# Altium footprint library PcbLib1.PcbLib: 22 footprints (part 2 of 2)
Each footprint in its own frame and in the unit in brackets; x right, y up, seen from the top. Pads: shape width x height; smd on the part's side, far side on the other; paste and mask are expansions set on the pad; w line width, h text height; cw(c..) or ccw(c..) is an arc to the next point about the centre after c.
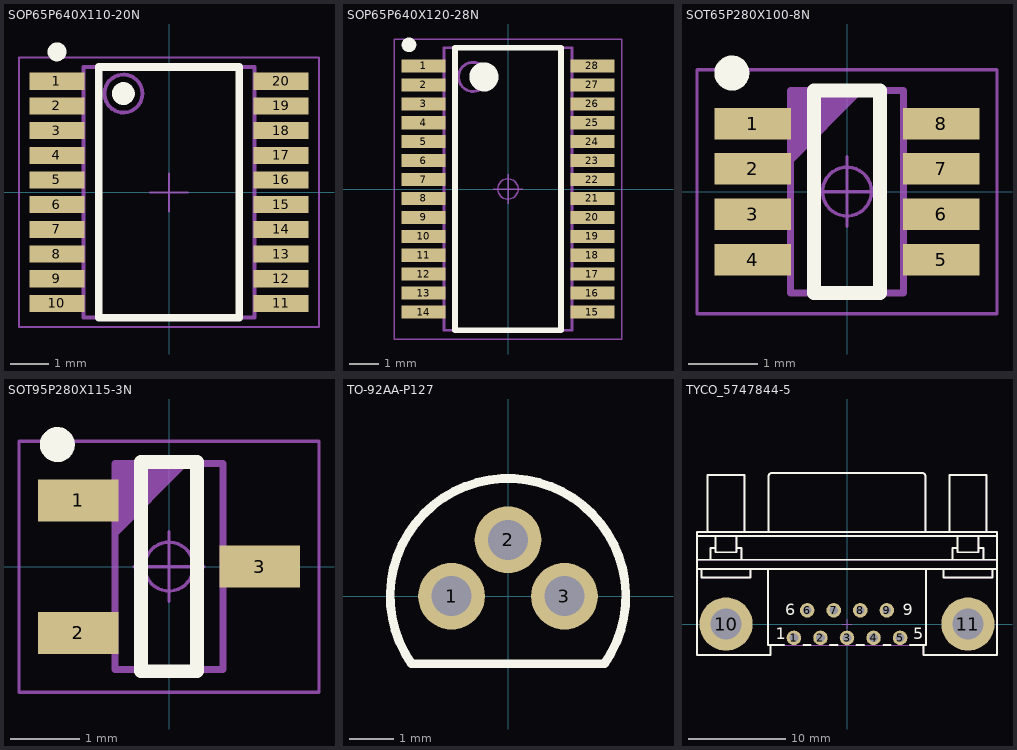
[diagram p1: the footprints below, top view; thin cyan lines are the x and y axes]

## SOP65P640X110-20N [mm] "SOP, 20-Leads, Body 6.6x4.5mm (max), Pitch 0.65mm, IPC Medium Density"
height 1.1
pads (20):
  rect 1.45x0.45 smd: 1(-2.95,2.925) 2(-2.95,2.275) 3(-2.95,1.625) 4(-2.95,0.975) 5(-2.95,0.325) 6(-2.95,-0.325) 7(-2.95,-0.975) 8(-2.95,-1.625) 9(-2.95,-2.275) 10(-2.95,-2.925) 11(2.95,-2.925) 12(2.95,-2.275) 13(2.95,-1.625) 14(2.95,-0.975) 15(2.95,-0.325) 16(2.95,0.325) 17(2.95,0.975) 18(2.95,1.625) 19(2.95,2.275) 20(2.95,2.925)
Top Overlay:
  circle w0.25: c-2.95,3.7 r0.125
  circle w0.3: c-1.2,2.6 r0.15
  lines w0.2: -1.85,-3.3 1.85,-3.3 1.85,3.3 -1.85,3.3 -1.85,-3.3
Mechanical 14:
  circle w0.1: c-1.2,2.6 r0.5
  lines w0.1: -2.25,-3.3 2.25,-3.3 2.25,3.3 -2.25,3.3 -2.25,-3.3
Mechanical 15:
  lines w0.05: -0.5,0 0.5,0 ; 0,-0.5 0,0.5 ; -3.95,-3.55 3.95,-3.55 3.95,3.55 -3.95,3.55 -3.95,-3.55
3D body "SOP65P640X110-20N.stp": height 1.19, standoff 0, extent -3.121,-3.3 3.121,3.3

## SOP65P640X120-28N [mm] "SOP, 0.65mm Pitch; 28 Pin, 4.40mm W X 9.70mm L X 1.20mm H body, IPC Medium Density"
height 1.2
pads (28):
  rect 1.5x0.45 smd: 1(-2.9,4.225) 2(-2.9,3.575) 3(-2.9,2.925) 4(-2.9,2.275) 5(-2.9,1.625) 6(-2.9,0.975) 7(-2.9,0.325) 8(-2.9,-0.325) 9(-2.9,-0.975) 10(-2.9,-1.625) 11(-2.9,-2.275) 12(-2.9,-2.925) 13(-2.9,-3.575) 14(-2.9,-4.225) 15(2.9,-4.225) 16(2.9,-3.575) 17(2.9,-2.925) 18(2.9,-2.275) 19(2.9,-1.625) 20(2.9,-0.975) 21(2.9,-0.325) 22(2.9,0.325) 23(2.9,0.975) 24(2.9,1.625) 25(2.9,2.275) 26(2.9,2.925) 27(2.9,3.575) 28(2.9,4.225)
Top Overlay:
  circle w0.5: c-0.825,3.85 r0.25
  circle w0.25: c-3.4,4.95 r0.125
  lines w0.2: -1.825,-4.85 1.825,-4.85 1.825,4.85 -1.825,4.85 -1.825,-4.85
Mechanical 14:
  circle w0.1: c-1.2,3.85 r0.5
  lines w0.1: -2.2,-4.85 2.2,-4.85 2.2,4.85 -2.2,4.85 -2.2,-4.85
Mechanical 15:
  circle w0.05: c0,0 r0.35
  lines w0.05: -0.5,0 0.5,0 ; 0,-0.5 0,0.5 ; -3.9,-5.15 3.9,-5.15 3.9,5.15 -3.9,5.15 -3.9,-5.15
3D body "SOP65P640X120-28N.stp": height 1.2, standoff 0, extent -3.121,-4.9 3.121,4.9

## SOT65P280X100-8N [mm] "SOT, 0.65mm pitch; 8 pin, 1.625mm W X 2.90mm L X 1.00mm H body, IPC Medium Density"
height 1
pads (8):
  rect 1.1x0.45 smd: 1(-1.35,0.975) 2(-1.35,0.325) 3(-1.35,-0.325) 4(-1.35,-0.975) 5(1.35,-0.975) 6(1.35,-0.325) 7(1.35,0.325) 8(1.35,0.975)
Top Overlay:
  circle w0.25: c-1.65,1.7 r0.125
  lines w0.2: -0.475,-1.45 -0.475,1.45 0.475,1.45 0.475,-1.45 -0.475,-1.45
Mechanical 14:
  lines w0.1: -0.812,0.45 0.188,1.45 ; -0.812,0.55 0.088,1.45 ; -0.812,0.65 -0.012,1.45 ; -0.812,0.75 -0.112,1.45 ; -0.812,0.85 -0.212,1.45 ; -0.812,0.95 -0.312,1.45 ; -0.812,1.05 -0.412,1.45 ; -0.812,1.15 -0.512,1.45 ; -0.812,1.25 -0.612,1.45 ; -0.812,1.35 -0.712,1.45 ; -0.812,-1.45 -0.812,1.45 0.812,1.45 0.812,-1.45 -0.812,-1.45
Mechanical 15:
  circle w0.05: c0,0 r0.35
  lines w0.05: -0.5,0 0.5,0 ; 0,-0.5 0,0.5 ; -2.15,-1.75 -2.15,1.75 2.15,1.75 2.15,-1.75 -2.15,-1.75
3D body "SOT65P280X100-8N.stp": height 1, standoff 0, extent -1.4,-1.5 1.4,1.5

## SOT95P280X115-3N [mm] "SOT23, 0.95mm, pitch;3 pin,1.55mm W X 2.95mm L X 1.15mm H body, IPC Medium Density"
height 1.15
pads (3):
  rect 1.15x0.6 smd: 1(-1.3,0.95) 2(-1.3,-0.95) 3(1.3,0)
Top Overlay:
  circle w0.25: c-1.6,1.75 r0.125
  lines w0.2: -0.4,-1.5 0.4,-1.5 0.4,1.5 -0.4,1.5 -0.4,-1.5
Mechanical 14:
  lines w0.1: -0.775,0.475 0.225,1.475 ; -0.775,0.575 0.125,1.475 ; -0.775,0.675 0.025,1.475 ; -0.775,0.775 -0.075,1.475 ; -0.775,0.875 -0.175,1.475 ; -0.775,0.975 -0.275,1.475 ; -0.775,1.075 -0.375,1.475 ; -0.775,1.175 -0.475,1.475 ; -0.775,1.275 -0.575,1.475 ; -0.775,1.375 -0.675,1.475 ; -0.775,-1.475 0.775,-1.475 0.775,1.475 -0.775,1.475 -0.775,-1.475
Mechanical 15:
  circle w0.05: c0,0 r0.35
  lines w0.05: -0.5,0 0.5,0 ; 0,-0.5 0,0.5 ; -2.15,-1.8 2.15,-1.8 2.15,1.8 -2.15,1.8 -2.15,-1.8
3D body "SOT95P280X115-3N.stp": height 1.15, standoff -0.01, extent -1.4,-1.5 1.599,1.5

## TO-92AA-P127 [mm] "TO-92 (TO-226),  Pitch 1.27mm, Flat Index, 3 In-Line, Axial Leads, Body Dia. 5.3mm, Leads Dia. 0.5mm (max)"
height 5.33
pads (3):
  round 1.5 hole 0.9: 1(-1.27,0) 2(0,1.27) 3(1.27,0)
Top Overlay:
  pour cut-out: 2.4,4.1
  lines w0.2: -2.171,-1.52 cw(c0,0) 2.171,-1.52 -2.171,-1.52
Mechanical 14:
  lines w0.1: -2.171,-1.52 cw(c0,0) 2.171,-1.52 -2.171,-1.52
3D body "TO-92AA-P127.stp": height 9.33, standoff -3.2, extent -2.579,-1.53 2.579,2.638

## TYCO_5747844-5 [mm] "Right Angle 9 Female Contacts D-SUB Connector With PCB Mount Retention , Grounding Straps, and Fixed UNC 4-40 Female Screwlocks"
height 12.92
pads (11):
  round 1.5 hole 0.9: 1(-5.48,-1.422) 2(-2.74,-1.422) 3(0,-1.422) 4(2.74,-1.422) 5(5.48,-1.422) 6(-4.11,1.422) 7(-1.37,1.422) 8(1.37,1.422) 9(4.11,1.422)
  round 5.5 hole 3.2 unplated: 10(-12.495,0)
  round 5.5 hole 3.2: 11(12.495,0)
Top Overlay:
  lines w0.2: -15.494,5.679 15.494,5.679 ; -15.494,6.645 15.494,6.645 ; -15.494,9.108 15.494,9.108 ; -15.011,5.679 -15.011,4.79 -9.982,4.79 -9.982,5.679 ; -14.402,9.525 -14.402,15.408 -10.592,15.408 -10.592,9.525 ; -14.084,6.645 -14.084,7.838 -13.576,7.838 ; -13.576,9.108 -13.576,7.422 -11.417,7.422 -11.417,9.108 ; -11.417,7.838 -10.909,7.838 -10.909,6.645 ; -8.153,5.679 -8.153,-2.169 -6.482,-2.169 ; -8.1,9.525 -8.1,15.296 cw(c-7.8,15.296) -7.8,15.596 7.8,15.596 cw(c7.8,15.296) 8.1,15.296 8.1,9.525 ; -7.899,-2.169 -7.899,-3.185 -15.494,-3.185 -15.494,9.525 15.494,9.525 15.494,-3.185 7.899,-3.185 7.899,-2.169 ; -4.478,-2.169 -3.742,-2.169 ; -1.738,-2.169 -1.002,-2.169 ; 1.002,-2.169 1.738,-2.169 ; 3.742,-2.169 4.478,-2.169 ; 6.482,-2.169 8.153,-2.169 8.153,5.679 ; 9.982,5.679 9.982,4.79 15.011,4.79 15.011,5.679 ; 10.592,9.525 10.592,15.408 14.402,15.408 14.402,9.525 ; 10.909,6.645 10.909,7.838 11.417,7.838 ; 11.417,9.108 11.417,7.422 13.576,7.422 13.576,9.108 ; 13.576,7.838 14.084,7.838 14.084,6.645
  text "6" at -6.375,0.925 h1.2
  text "5" at 6.85,-1.575 h1.2
  text "1" at -7.35,-1.575 h1.2
  text "9" at 5.75,0.925 h1.2
Mechanical 8:
  circle w0.1: c-12.495,0 r1.6
  circle w0.1: c12.495,0 r1.6
  circle w0.1: c-4.11,1.422 r0.5
  circle w0.1: c-5.48,-1.422 r0.5
  circle w0.1: c4.11,1.422 r0.5
  circle w0.1: c5.48,-1.422 r0.5
  lines w0.1: -12.995,0 -12.495,0 ; -12.495,-0.5 -12.495,0 ; -12.495,0.5 -12.495,0 ; -11.995,0 -12.495,0 ; -5.98,-1.422 -5.48,-1.422 ; -5.48,-1.922 -5.48,-1.422 ; -5.48,-0.922 -5.48,-1.422 ; -4.98,-1.422 -5.48,-1.422 ; -4.61,1.422 -4.11,1.422 ; -4.11,0.922 -4.11,1.422 ; -4.11,1.922 -4.11,1.422 ; -3.61,1.422 -4.11,1.422 ; -3.24,-1.422 -2.74,-1.422 ; -2.74,-1.922 -2.74,-1.422 ; -2.74,-0.922 -2.74,-1.422 ; -2.24,-1.422 -2.74,-1.422 ; -1.87,1.422 -1.37,1.422 ; -1.37,0.922 -1.37,1.422 ; -1.37,1.922 -1.37,1.422 ; -0.87,1.422 -1.37,1.422 ; -0.5,-1.422 0,-1.422 ; -0.5,0 0,0 ; 0,-1.922 0,-1.422 ; 0,-0.922 0,-1.422 ; 0,-0.5 0,0 ; 0,0.5 0,0 ; 0.5,-1.422 0,-1.422 ; 0.5,0 0,0 ; 0.87,1.422 1.37,1.422 ; 1.37,0.922 1.37,1.422 ; 1.37,1.922 1.37,1.422 ; 1.87,1.422 1.37,1.422 ; 2.24,-1.422 2.74,-1.422 ; 2.74,-1.922 2.74,-1.422 ; 2.74,-0.922 2.74,-1.422 ; 3.24,-1.422 2.74,-1.422 ; 3.61,1.422 4.11,1.422 ; 4.11,0.922 4.11,1.422 ; 4.11,1.922 4.11,1.422 ; 4.61,1.422 4.11,1.422 ; 4.98,-1.422 5.48,-1.422 ; 5.48,-1.922 5.48,-1.422 ; 5.48,-0.922 5.48,-1.422 ; 5.98,-1.422 5.48,-1.422 ; 11.995,0 12.495,0 ; 12.495,-0.5 12.495,0 ; 12.495,0.5 12.495,0 ; 12.995,0 12.495,0
Mechanical 14:
  circle w0.1: c-12.497,0 r1.854
  circle w0.1: c-12.497,0 r1.549
  circle w0.1: c12.497,0 r1.854
  circle w0.1: c12.497,0 r1.549
  lines w0.1: -15.494,5.679 15.494,5.679 ; -15.494,6.645 15.494,6.645 ; -15.494,9.108 15.494,9.108 ; -15.011,5.679 -15.011,4.79 -9.982,4.79 -9.982,5.679 ; -14.402,9.525 -14.402,15.408 -10.592,15.408 -10.592,9.525 ; -14.084,6.645 -14.084,7.838 -13.576,7.838 ; -13.576,9.108 -13.576,7.422 -11.417,7.422 -11.417,9.108 ; -11.417,7.838 -10.909,7.838 -10.909,6.645 ; -8.153,5.679 -8.153,-2.169 8.153,-2.169 8.153,5.679 ; -8.1,9.525 -8.1,15.296 cw(c-7.8,15.296) -7.8,15.596 7.8,15.596 cw(c7.8,15.296) 8.1,15.296 8.1,9.525 ; -7.899,-2.169 -7.899,-3.185 -15.494,-3.185 -15.494,9.525 15.494,9.525 15.494,-3.185 7.899,-3.185 7.899,-2.169 ; 9.982,5.679 9.982,4.79 15.011,4.79 15.011,5.679 ; 10.592,9.525 10.592,15.408 14.402,15.408 14.402,9.525 ; 10.909,6.645 10.909,7.838 11.417,7.838 ; 11.417,9.108 11.417,7.422 13.576,7.422 13.576,9.108 ; 13.576,7.838 14.084,7.838 14.084,6.645
  text "9" at 5.75,0.925 h1.2
  text "1" at -7.35,-1.575 h1.2
  text "5" at 6.85,-1.575 h1.2
  text "6" at -6.375,0.925 h1.2
3D body "TYCO_5747844-5.stp": height 12.55, standoff -3.26, extent -15.494,-3.185 15.494,15.71